# Altium footprint library INDAD3280W80L1200D520.PcbLib: 1 footprints
Each footprint in its own frame and in the unit in brackets; x right, y up, seen from the top. Pads: shape width x height; smd on the part's side, far side on the other; paste and mask are expansions set on the pad; w line width, h text height; cw(c..) or ccw(c..) is an arc to the next point about the centre after c.
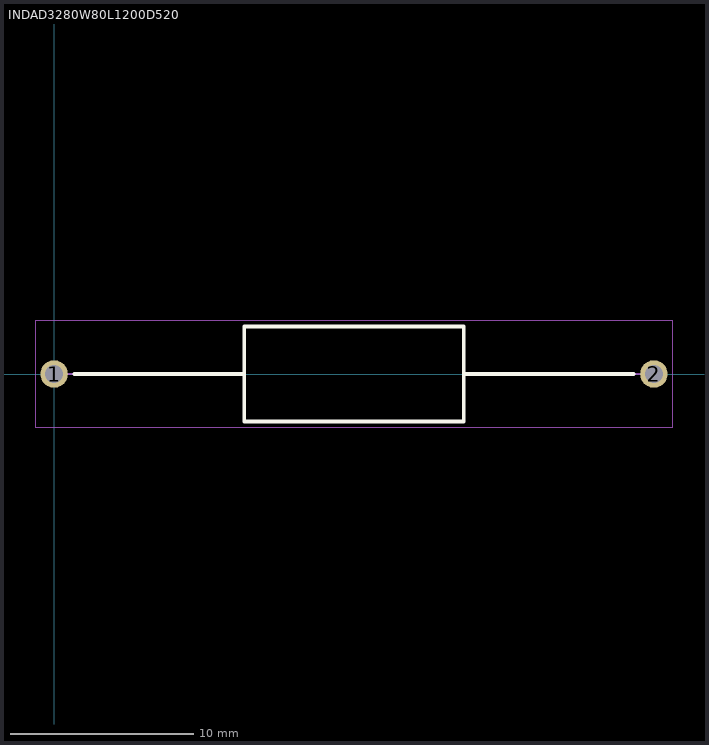
[diagram p0: the footprint, top view; thin cyan lines are the x and y axes]

## INDAD3280W80L1200D520 [mm]
pads (2):
  round 1.5 hole 1: 1(0,0) 2(32.8,0)
Top Overlay:
  lines w0.2: 1.1,0 10.4,0 ; 22.4,0 31.7,0 ; 10.4,-2.6 22.4,-2.6 22.4,2.6 10.4,2.6 10.4,-2.6
Mechanical 15:
  lines w0.1: 0,0 10.4,0 ; 22.4,0 32.8,0 ; 10.4,-2.6 22.4,-2.6 22.4,2.6 10.4,2.6 10.4,-2.6
Mechanical 20:
  lines w0.05: -1,-2.95 33.8,-2.95 33.8,2.95 -1,2.95 -1,-2.95